# Altium schematic symbol library RPSLib.SchLib: 121 symbols (part 1 of 3)
Pins are listed as number, name and electrical type; pins without a type are passive.

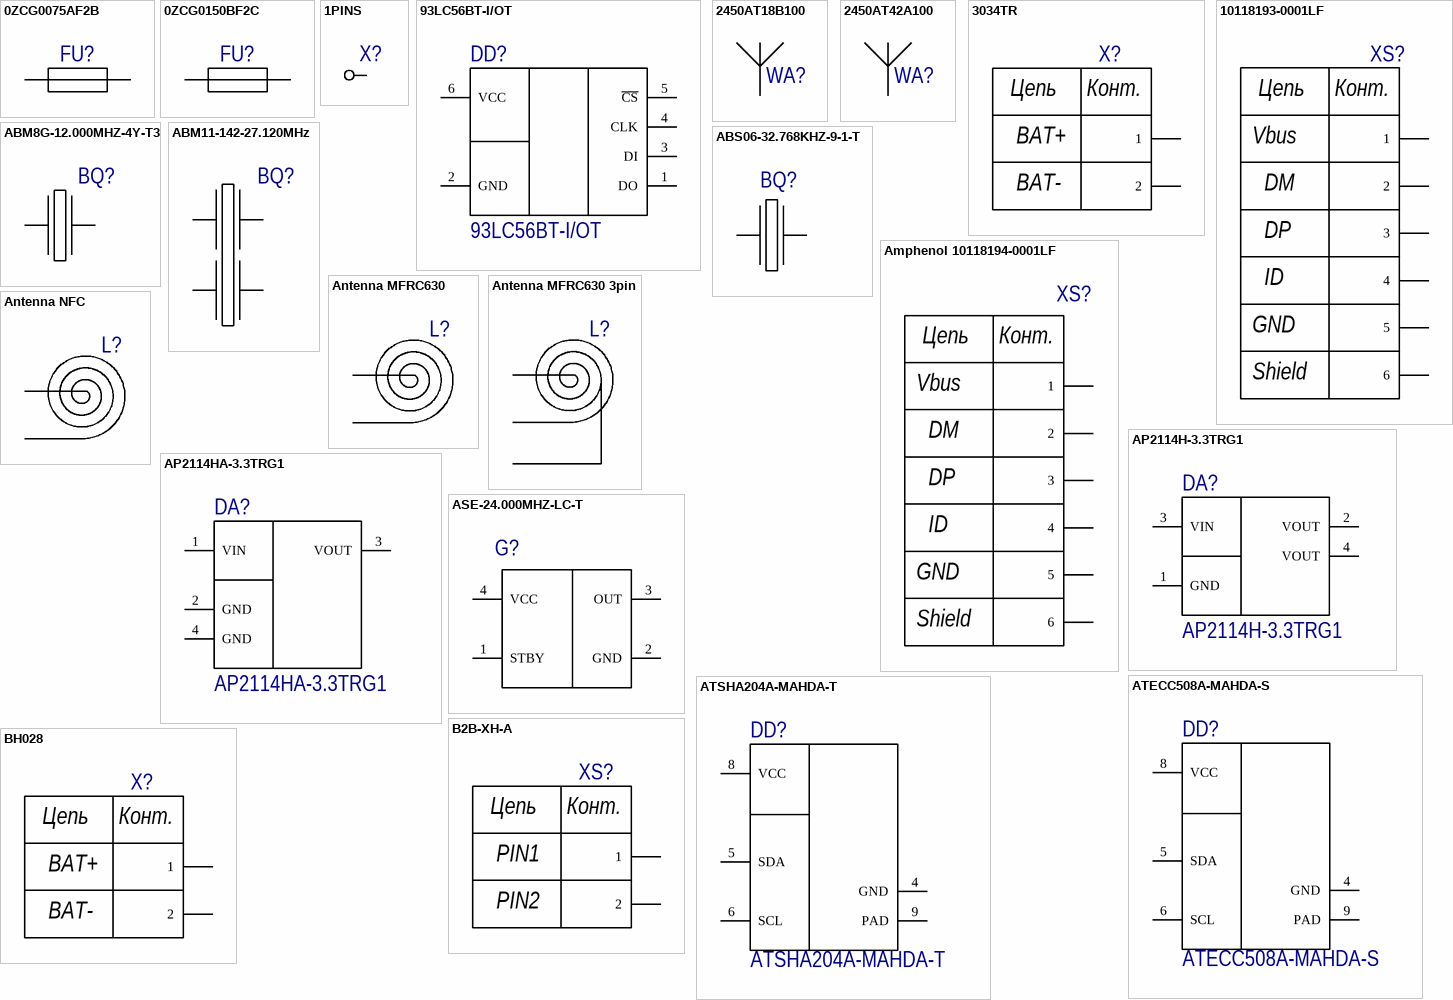
[diagram p0: symbols 0ZCG0075AF2B to BH028]

## 0ZCG0075AF2B
designator FU?  (value not drawn)
PTC RESTTBLE 0.75A 24V CHIP 1812; Manufacturer: Bel; Max Current Rating: 40A; Hold Current: 750mA; Trip Current: 1.5A; Time to Trip: 0.2s; РКД Наименование: *; Supplier 1: Digi-Key; Manufacturer Part Number: 0ZCG0075AF2B; Stock 1: 1719; Pricing 1: 1=0.21, 5=0.2, 10=0.191, 50=0.1706, 100=0.1588, 250=0.1411, 500=0.1176 (USD); Case/Package: 1812; Case Code (Metric): 4532; Case Code (Imperial): 1812; Package Quantity: 1; Packaging: Cut Tape; ComponentLink1URL: https://www.belfuse.com/resources/CircuitProtection/datasheets/0ZCG%20Nov2016.pdf?src-supplier=Digi-Key; ComponentLink1Description: https://www.belfuse.com/resources/CircuitProtection/datasheets/0ZCG%20Nov2016.pdf?src-supplier=Digi-Key; Supplier Part Number 1: 507-1764-1-ND
footprint FUSE4632X15N (Chip Fuse, 2-Leads, Body 4,55x3,24mm, IPC Medium Density)
pins: 1, 2

## 0ZCG0150BF2C
designator FU?  (value not drawn)
PTC RESTTBLE 1.50A 24V CHIP 1812; Manufacturer: Bel; Max Current Rating: 100A; Power Dissipation: 1W; Hold Current: 1.5A; Trip Current: 3A; Time to Trip: 1.5s; Approvals: TUV,UL; Supplier 1: Digi-Key; Manufacturer Part Number: 0ZCG0150BF2C; Stock 1: 213519; Pricing 1: 1=0.21, 5=0.2, 10=0.191, 50=0.1706, 100=0.1588, 250=0.14112, 500=0.1176, 1000=0.11172 (USD); Mount: Surface Mount; Case/Package: 1812; Case Code (Metric): 4532; Case Code (Imperial): 1812; Contact Plating: Matte,Tin; Number of Terminals: 2; Min Operating Temperature: -40°C; Max Operating Temperature: 85°C; Package Quantity: 1; Packaging: Tape and Reel; Max Voltage Rating (DC): 24V; Lead Free: Lead Free; Supplier Part Number 1: 507-1773-1-ND; РКД Наименование: *
footprint FUSE4632X15N (Chip Fuse, 2-Leads, Body 4,55x3,24mm, IPC Medium Density)
pins: 1, 2

## 1PINS
designator X?  (value not drawn)
footprint 1Pin
pins: 1

## 93LC56BT-I/OT
designator DD?
IC EEPROM 2K SPI 2MHZ SOT23-6; Manufacturer: Microchip; Density: 2Kb; Interface: Serial; Max Supply Voltage: 5.5V; Min Supply Voltage: 2.5V; Access Time: 250ns; Nominal Supply Current: 2mA; Supplier 1: Digi-Key; Manufacturer Part Number: 93LC56BT-I/OT; Stock 1: 30936; Pricing 1: 1=0.23, 25=0.2164, 100=0.2119 (USD); Mount: Surface Mount; Case/Package: SOT-23; Number of Pins: 6; Contact Plating: Matte,Tin; Min Operating Temperature: -40°C; Max Operating Temperature: 85°C; Max Frequency: 2MHz; Packaging: Tape and Reel; Package Quantity: 3000; Memory Size: 2Kb; Frequency: 2MHz; Memory Type: EEPROM; Length: 3.1mm; Height: 1.3mm; Width: 1.8mm; Radiation Hardening: No; REACH SVHC: No SVHC; Lead Free: Lead Free; ComponentLink1URL: http://ww1.microchip.com/downloads/jp/DeviceDoc/jp013939.pdf; ComponentLink1Description: http://ww1.microchip.com/downloads/jp/DeviceDoc/jp013939.pdf; ComponentLink2URL: http://www.microchip.com/mymicrochip/filehandler.aspx?ddocname=en013939; ComponentLink2Description: http://www.microchip.com/mymicrochip/filehandler.aspx?ddocname=en013939; Supplier Part Number 1: 93LC56BT-I/OTCT-ND
footprint SOT95P280X145-6N (SOT23, 6-Leads, Body 2.92x2.80mm, Pitch 0.95mm, IPC Medium Density)
pins: 1 DO, 2 GND, 3 DI, 4 CLK, 5 ~{CS}, 6 VCC

## 2450AT18B100
designator WA?  (value not drawn)
2450 MHz Chip antenna; Manufacturer: Johanson; Manufacturer Part Number: 2450AT18B100E; Impedance: 50R; Bandwidth: 100MHz; Power Rating: 3W; Number of Bands: 1; Return Loss: -9.5dB; Frequency: 2.45GHz; Max Frequency: 2.5GHz; Gain: -0.5dB; Supplier 1: Digi-Key; Stock 1: 179928; Pricing 1: 1=0.62, 10=0.541, 25=0.4788, 100=0.4172, 250=0.36308, 500=0.309, 1000=0.2472 (USD); Mount: Surface Mount; Case/Package: CSMD; Contact Plating: Tin; Min Operating Temperature: -40°C; Max Operating Temperature: 85°C; Package Quantity: 1; Packaging: Tape and Reel; Max Power Dissipation: 3W; Termination: Solder; Length: 3.2mm; Height: 0.051inch; Width: 1.6mm; Radiation Hardening: No; REACH SVHC: No SVHC; РКД Наименование: *; Supplier Part Number 1: 712-1006-1-ND
footprint 2450AT18B100 (2450 MHz Chip Antenna)
pins: 1 2

## 2450AT42A100
designator WA?  (value not drawn)
2450 MHz Chip antenna; Manufacturer: Johanson; Manufacturer Part Number: 2450AT42A100E; Impedance: 50R; Power Rating: 3W; Number of Bands: 1; Return Loss: -9.5dB; Frequency: 2.45GHz; Max Frequency: 2.5GHz; Gain: -1dB; РКД Наименование: 2450AT42A100 - Chip Antenna 2.4 GHz; Supplier 1: Digi-Key; Stock 1: 0; Mount: Surface Mount; Number of Pins: 2; Contact Plating: Tin; Min Operating Temperature: -40°C; Max Operating Temperature: 85°C; Package Quantity: 1; Packaging: Tape and Reel; Max Power Dissipation: 3W; Composition: Ceramic; Length: 5mm; Height: 0.043inch; Width: 2mm; Radiation Hardening: No; REACH SVHC: Unknown; Termination: Solder; Supplier Part Number 1: 712-1007-1-ND
footprint 2450AT42A100 (2450 MHz Chip antenna)
pins: 1 21

## 3034TR
designator X?  (value not drawn)
Держатель батареи; Manufacturer: JST; Manufacturer Part Number: B2B-XH-A(LF)(SN); Number of Positions: 2; Connector Type: Male Pin; Contact Resistance: 20mR; Max Current Rating: 3A; Max Voltage Rating (AC): 250V; Insulation Resistance: 1GR; Pitch: 2.5mm; Wire/Cable Gauge: 22AWG; Supplier 1: Digi-Key; Stock 1: 494280; Pricing 1: 1=0.15, 10=0.141, 100=0.0868, 500=0.07182, 1000=0.06284, 5000=0.05387, 10000=0.05237 (USD); Mount: Through Hole; Contact Plating: Copper,Lead,Tin; Colour: Natural; Contact Material: Brass; Housing Material: Polyamide; Housing Colour: White; Min Operating Temperature: -25°C; Max Operating Temperature: 85°C; Termination: Solder; Number of Rows: 1; Packaging: Bulk; Fastening Type: Detent; Orientation: Straight; Current Rating: 3A; Voltage Rating: 250V; Voltage Rating (AC): 250V; Number of Contacts: 2; Max Voltage Rating (DC): 250V; Length: 7.4mm; Depth: 5.75mm; Lead Pitch: 2.5mm; Lead Free: Lead Free; REACH SVHC: No SVHC; Supplier Part Number 1: 455-2247-ND; РКД Наименование: *
footprint 3034TR (3034TR Battery Holder)
pins: 1, 2
text: Цепь; Конт.; BAT+; BAT-

## 10118193-0001LF
designator XS?  (value not drawn)
USB - micro B USB 2.0 Receptacle Connector 5 Position Surface Mount, Right Angle, Horizontal; Manufacturer: Amphenol FCI; Gender: Female; Connector Type: Receptacle,USB; Number of Contacts: 5; Insulation Resistance: 1GR; Number of Ports: 1; Current Rating: 1.8A; Max Voltage Rating (AC): 100V; Pitch: 0.65mm; Supplier 1: Digi-Key; Manufacturer Part Number: 10118193-0001LF; Stock 1: 277505; Pricing 1: 1=0.42, 10=0.393, 25=0.3536, 50=0.3144, 100=0.3013, 250=0.27512, 500=0.26202 (USD); Mount: Horizontal,Surface Mount; Contact Material: Copper Alloy; Contact Plating: Gold; Colour: Black; Number of Terminals: 5; Housing Material: Polymer; Min Operating Temperature: -55°C; Max Operating Temperature: 85°C; Termination: Solder; Orientation: Right Angle; Package Quantity: 1200; Packaging: Tape and Reel; Voltage Rating: 100V; Features: Shielded; Length: 7.86mm; Depth: 5.67mm; Radiation Hardening: No; Flammability Rating: UL94 V-0; ComponentLink1URL: https://cdn.amphenol-icc.com/media/wysiwyg/files/documentation/datasheet/inputoutput/io_usb_micro.pdf; ComponentLink1Description: https://cdn.amphenol-icc.com/media/wysiwyg/files/documentation/datasheet/inputoutput/io_usb_micro.pdf; Supplier Part Number 1: 609-4616-1-ND
footprint Amphenol 10118193-0001LF (USB Micro-B)
pins: 1, 2, 3, 4, 5, 6
text: Цепь; Конт.; Vbus; DM; DP; ID; GND; Shield

## ABM8G-12.000MHZ-4Y-T3
designator BQ?  (value not drawn)
12MHz ±30ppm Crystal 10pF 120 Ohm -10°C ~ 60°C  Surface Mount 4-SMD, No Lead (DFN, LCC); Manufacturer: Abracon; ESR (Equivalent Series Resistance): 120R; Supplier 1: Digi-Key; Manufacturer Part Number: ABM8G-12.000MHZ-4Y-T3; Stock 1: 100422; Pricing 1: 1=0.45, 10=0.371, 50=0.3342, 100=0.297, 500=0.28216, 1000=0.2376 (USD); Mount: Surface Mount; Case/Package: CSMD; Number of Pins: 4; Min Operating Temperature: -10°C; Max Operating Temperature: 60°C; Frequency: 12MHz; Load Capacitance: 10pF; Packaging: Tape and Reel; Frequency Tolerance: 30ppm; Frequency Stability: 30ppm; Series Resistance: 120R; Length: 3.2mm; Height: 0.039inch; Width: 0.098inch; Depth: 2.5mm; REACH SVHC: No SVHC; Lead Free: Lead Free; ComponentLink1URL: https://www.verical.com/server-webapp/html/getDatasheet?partID=719872; ComponentLink1Description: https://www.verical.com/server-webapp/html/getDatasheet?partID=719872; ComponentLink2URL: https://abracon.com/Resonators/ABM8G.pdf; ComponentLink2Description: https://abracon.com/Resonators/ABM8G.pdf; ComponentLink3URL: http://www.abracon.com/Resonators/ABM8G.pdf; ComponentLink3Description: http://www.abracon.com/Resonators/ABM8G.pdf; Supplier Part Number 1: 535-10901-1-ND
footprint ABM8G (Abracon ABM8G Crystal)
pins: 1, 3

## ABM11-142-27.120MHz
designator BQ?  (value not drawn)
27.12MHz ±10ppm Crystal 8pF 40 Ohm -20°C ~ 70°C  Surface Mount 4-SMD, No Lead (DFN, LCC); Manufacturer: Abracon; Manufacturer Part Number: ABM11-142-27.120MHZ-T3; ESR (Equivalent Series Resistance): 40R; Supplier 1: Digi-Key; Stock 1: 4799; Pricing 1: 1=0.62, 10=0.516, 50=0.464, 100=0.4125, 500=0.39188, 1000=0.33 (USD); Mount: Surface Mount; Case/Package: SMD/SMT; Min Operating Temperature: -20°C; Max Operating Temperature: 70°C; Packaging: Tape and Reel; Frequency: 27.12MHz; Load Capacitance: 8pF; Frequency Stability: 10ppm; Frequency Tolerance: 10ppm; Length: 0.081inch; Height: 0.02inch; Width: 0.065inch; Supplier Part Number 1: 535-13524-1-ND; РКД Наименование: *
footprint ABM11 (ABM11 Crystal)
pins: 1, 2, 3 2, 4

## ABS06-32.768KHZ-9-1-T
designator BQ?  (value not drawn)
CRYSTAL 32.7680KHZ 9PF SMD; Manufacturer: Abracon; ESR (Equivalent Series Resistance): 90kR; Tolerance: 10ppm; Supplier 1: Digi-Key; Stock 1: 49513; Pricing 1: 1=0.83, 10=0.734, 50=0.6858, 100=0.6061, 500=0.5742, 1000=0.4785 (USD); Mount: Surface Mount; Case/Package: CSMD; Number of Pins: 2; Min Operating Temperature: -40°C; Max Operating Temperature: 85°C; Frequency: 32.768kHz; Load Capacitance: 9pF; Packaging: Tape and Reel; Package Quantity: 3000; Frequency Tolerance: 10ppm; Termination: SMD/SMT; Series Resistance: 90kR; Length: 2mm; Height: 0.024inch; Width: 1.2mm; Depth: 1.2mm; Radiation Hardening: No; REACH SVHC: No SVHC; ComponentLink1URL: http://www.abracon.com/Resonators/ABS06.pdf?src-supplier=Element14; ComponentLink1Description: http://www.abracon.com/Resonators/ABS06.pdf?src-supplier=Element14; ComponentLink2URL: https://abracon.com/Support/PackageDrawing/Resonators/ABS06.PDF?src-supplier=Digi-Key; ComponentLink2Description: https://abracon.com/Support/PackageDrawing/Resonators/ABS06.PDF?src-supplier=Digi-Key; ComponentLink3URL: http://www.abracon.com/Resonators/ABS06.pdf?src-supplier=Avnet; ComponentLink3Description: http://www.abracon.com/Resonators/ABS06.pdf?src-supplier=Avnet; ComponentLink4URL: http://www.abracon.com/Resonators/ABS06.pdf?src-supplier=Farnell; ComponentLink4Description: http://www.abracon.com/Resonators/ABS06.pdf?src-supplier=Farnell; ComponentLink5URL: http://www.abracon.com/Resonators/ABS06.pdf?src-supplier=Avnet+Asia; ComponentLink5Description: http://www.abracon.com/Resonators/ABS06.pdf?src-supplier=Avnet+Asia; Manufacturer Part Number: ABS06-32.768KHZ-9-1-T; Supplier Part Number 1: 535-10247-1-ND
footprint Abracon ABS06
pins: 1, 2

## Amphenol 10118194-0001LF
designator XS?  (value not drawn)
РКД Наименование: *
footprint Amphenol 10118194-0001LF
pins: 1, 2, 3, 4, 5, 6
text: Цепь; Конт.; Vbus; DM; DP; ID; GND; Shield

## Antenna MFRC630
designator L?, comment Антенна  (value not drawn)  (net tie, no BOM)
footprint MFRC630 Antenna 3x45 (Антенна 3 витка 45 мм)
footprint MFRC630 Antenna 4x45 (Антенна 4 витка 45 мм)
footprint MFRC630 Antenna 5x45 (Антенна 5 витка 45 мм)
footprint MFRC630 Antenna 3x44 circ (Антенна 3 витка 44 мм)
footprint MFRC630 Antenna 4x44 circ (Антенна 4витка 44 мм)
footprint MFRC630 Antenna 5x44 circ (Антенна 5 витков 44 мм)
pins: 1, 2

## Antenna MFRC630 3pin
designator L?, comment Антенна  (value not drawn)  (net tie, no BOM)
footprint MFRC630 Antenna 6x55 circ (Антенна 6 витков 35 мм)
pins: 1, 2, 3

## Antenna NFC
designator L?, comment Антенна  (value not drawn)  (net tie, no BOM)
footprint Antenna 3x40c (Антенна спиральная 3 витка, 40 мм)
footprint Antenna 3x45c (Антенна спиральная 3 витка, 45 мм)
footprint Antenna 4x40c (Антенна спиральная 4 витка, 40 мм)
footprint Antenna 4x45c (Антенна спиральная 4 витка, 45 мм)
footprint Antenna 5x40c (Антенна спиральная 5 витков, 40 мм)
footprint Antenna 5x45c (Антенна спиральная 5 витков, 45 мм)
footprint Antenna 3x40h (Антенна гексагональная 3 витка, 40 мм)
footprint Antenna 3x45h (Антенна гексагональная 3 витка, 45 мм)
footprint Antenna 3x50h (Антенна гексагональная 3 витка, 50 мм)
footprint Antenna 4x40h (Антенна гексагональная 4 витка, 40 мм)
footprint Antenna 4x45h (Антенна гексагональная 4 витка, 45 мм)
footprint Antenna 4x50h (Антенна гексагональная 4 витка, 50 мм)
pins: 1, 2

## AP2114H-3.3TRG1
designator DA?
IC REG LDO 3.3V 1A SOT223; Manufacturer: Diodes; Number of Outputs: 1; Min Input Voltage: 2.5V; Max Input Voltage: 6V; Dropout Voltage: 450mV; Polarity: Positive; Quiescent Current: 65uA; Accuracy: 1.5%; Power Supply Rejection Ratio (PSRR): 65dB; Output Type: Fixed; Supplier 1: Digi-Key; Manufacturer Part Number: AP2114H-3.3TRG1; Stock 1: 59384; Pricing 1: 1=0.36, 10=0.293, 100=0.1994, 500=0.14956, 1000=0.11218 (USD); Mount: Surface Mount; Case/Package: SOT-223; Number of Pins: 3; Weight: 0.000282oz; Min Operating Temperature: -40°C; Max Operating Temperature: 85°C; Packaging: Tape and Reel; Output Voltage: 3.3V; Package Quantity: 4000; Output Current: 1A; Number of Regulators: 1; Max Output Current: 1A; Length: 6.7mm; Height: 1.7mm; Width: 3.7mm; Lead Free: Lead Free; Supplier Part Number 1: AP2114H-3.3TRG1DICT-ND; РКД Наименование: *
footprint SOT230P700X180-4N (SOT223, 4-Leads, Body 6,50x7,00mm (avg), Pitch 2,30mm, IPC Medium Density)
pins: 1 GND, 2 VOUT, 3 VIN, 4 VOUT

## AP2114HA-3.3TRG1
designator DA?
IC REG LDO 3.3V 1A SOT223; Manufacturer: Diodes; Dropout Voltage: 450mV; Number of Regulators: 1; Polarity: Positive; Quiescent Current: 90uA; Accuracy: 1.5%; Min Input Voltage: 2.5V; Max Input Voltage: 6V; Output Type: Fixed; Supplier 1: Digi-Key; Manufacturer Part Number: AP2114HA-3.3TRG1; Stock 1: 1692; Pricing 1: 1=0.36, 10=0.293, 100=0.1994, 500=0.14956, 1000=0.11218 (USD); Mount: Surface Mount; Case/Package: TO-261-4; Number of Pins: 3; Contact Plating: Tin; Min Operating Temperature: -40°C; Max Operating Temperature: 85°C; Packaging: Tape and Reel; Package Quantity: 4000; Output Voltage: 3.3V; Output Current: 1A; Max Output Current: 1A; Number of Outputs: 1; Supplier Part Number 1: AP2114HA-3.3TRG1DICT-ND; РКД Наименование: *
footprint SOT230P700X180-4N (SOT223, 4-Leads, Body 6,50x7,00mm (avg), Pitch 2,30mm, IPC Medium Density)
pins: 1 VIN, 2 GND, 3 VOUT, 4 GND

## ASE-24.000MHZ-LC-T
designator G?  (value not drawn)
XTAL OSC XO 24.0000MHZ CMOS SMD; Manufacturer: Abracon; Frequency: 24MHz; Frequency Stability: 50ppm; Load Capacitance: 15pF; Max Supply Voltage: 2.625V; Min Supply Voltage: 2.375V; Max Supply Current: 13mA; Supplier 1: Digi-Key; Stock 1: 46062; Pricing 1: 1=1.39, 10=1.324, 50=1.2936, 100=1.1088, 500=1.078 (USD); Mount: Surface Mount; Case/Package: SMD/SMT; Number of Pins: 4; Min Operating Temperature: -40°C; Max Operating Temperature: 85°C; Packaging: Tape and Reel; Package Quantity: 1000; Termination: SMD/SMT; Length: 3.2mm; Height: 0.047inch; Width: 0.098inch; Depth: 2.5mm; Radiation Hardening: No; Lead Free: Lead Free; REACH SVHC: No SVHC; ComponentLink1URL: http://www.abracon.com/Oscillators/ASEseries.pdf?src-supplier=Newark; ComponentLink1Description: http://www.abracon.com/Oscillators/ASEseries.pdf?src-supplier=Newark; ComponentLink2URL: https://abracon.com/Support/PackageDrawing/Oscillators/ASE.PDF?src-supplier=Digi-Key; ComponentLink2Description: https://abracon.com/Support/PackageDrawing/Oscillators/ASE.PDF?src-supplier=Digi-Key; ComponentLink3URL: https://www.verical.com/server-webapp/html/getDatasheet?partID=719758&src-supplier=Verical; ComponentLink3Description: https://www.verical.com/server-webapp/html/getDatasheet?partID=719758&src-supplier=Verical; Supplier Part Number 1: 535-9566-1-ND; Manufacturer Part Number: ASE-24.000MHZ-LC-T
footprint ASE Abracon
pins: 1 STBY, 2 GND, 3 OUT, 4 VCC

## ATECC508A-MAHDA-S
designator DD?
CUSTSPEC, ECC 10KB - 8LD UDFN GENERIC TWI, 3K T&R Description CUSTSPEC, ECC 10KB - 8LD UDFN GENERIC TWI, 3K T&R; Manufacturer: Microchip / Atmel; Supplier 1: Digi-Key; Manufacturer Part Number: ATECC508A-MAHDA-S; Stock 1: 31288; Pricing 1: 1=0.73, 25=0.7064 (USD); Mount: Surface Mount; Packaging: Tape and Reel; Lead Free: Lead Free; Supplier Part Number 1: ATECC508A-MAHDA-SCT-ND; РКД Наименование: *
footprint SON50P300X60_HS-9N (SON, 8-Leads, Body 2,00x3,00mm, Pitch 0,50mm, Thermal Pad 1,50x1,30mm, IPC Medium Density)
pins: 4 GND, 5 SDA, 6 SCL, 8 VCC, 9 PAD

## ATSHA204A-MAHDA-T
designator DD?
IC CRYPTO 4.5KB I2C 8UDFN Description IC CRYPTO 4.5KB I2C 8UDFN; Manufacturer: Microchip / Atmel; Interface: I2C,Serial; Access Time: 550ns; Max Frequency: 1MHz; Number of Input Lines: 1; Output Current: 4mA; Output Voltage: 400mV; Max Supply Voltage: 6V; Min Supply Voltage: 2V; Operating Supply Voltage: 5.5V; Supplier 1: Digi-Key; Manufacturer Part Number: ATSHA204A-MAHDA-T; Stock 1: 24073; Pricing 1: 1=0.52, 25=0.4636 (USD); Mount: Surface Mount; Number of Pins: 8; Weight: 0.000335oz; Contact Plating: Gold; Min Operating Temperature: -40°C; Max Operating Temperature: 85°C; Package Quantity: 1; Packaging: Tape and Reel; Density: 4.5Kb; Number of Output Lines: 1; Lead Free: Lead Free; Supplier Part Number 1: ATSHA204A-MAHDA-TCT-ND; РКД Наименование: *
footprint SON50P300X60_HS-9N (SON, 8-Leads, Body 2,00x3,00mm, Pitch 0,50mm, Thermal Pad 1,50x1,30mm, IPC Medium Density)
pins: 4 GND, 5 SDA, 6 SCL, 8 VCC, 9 PAD

## B2B-XH-A
designator XS?  (value not drawn)
Разъем 2; Manufacturer: JST; Manufacturer Part Number: B2B-XH-A(LF)(SN); Number of Positions: 2; Connector Type: Male Pin; Contact Resistance: 20mR; Max Current Rating: 3A; Max Voltage Rating (AC): 250V; Insulation Resistance: 1GR; Pitch: 2.5mm; Wire/Cable Gauge: 22AWG; Supplier 1: Digi-Key; Stock 1: 494280; Pricing 1: 1=0.15, 10=0.141, 100=0.0868, 500=0.07182, 1000=0.06284, 5000=0.05387, 10000=0.05237 (USD); Mount: Through Hole; Contact Plating: Copper,Lead,Tin; Colour: Natural; Contact Material: Brass; Housing Material: Polyamide; Housing Colour: White; Min Operating Temperature: -25°C; Max Operating Temperature: 85°C; Termination: Solder; Number of Rows: 1; Packaging: Bulk; Fastening Type: Detent; Orientation: Straight; Current Rating: 3A; Voltage Rating: 250V; Voltage Rating (AC): 250V; Number of Contacts: 2; Max Voltage Rating (DC): 250V; Length: 7.4mm; Depth: 5.75mm; Lead Pitch: 2.5mm; Lead Free: Lead Free; REACH SVHC: No SVHC; Supplier Part Number 1: 455-2247-ND; РКД Наименование: *
footprint B2B-XH-A (2 pin connector)
pins: 1, 2
text: Цепь; Конт.; PIN1; PIN2

## BH028
designator X?  (value not drawn)
Держатель батареи; Manufacturer: JST; Manufacturer Part Number: B2B-XH-A(LF)(SN); Number of Positions: 2; Connector Type: Male Pin; Contact Resistance: 20mR; Max Current Rating: 3A; Max Voltage Rating (AC): 250V; Insulation Resistance: 1GR; Pitch: 2.5mm; Wire/Cable Gauge: 22AWG; Supplier 1: Digi-Key; Stock 1: 494280; Pricing 1: 1=0.15, 10=0.141, 100=0.0868, 500=0.07182, 1000=0.06284, 5000=0.05387, 10000=0.05237 (USD); Mount: Through Hole; Contact Plating: Copper,Lead,Tin; Colour: Natural; Contact Material: Brass; Housing Material: Polyamide; Housing Colour: White; Min Operating Temperature: -25°C; Max Operating Temperature: 85°C; Termination: Solder; Number of Rows: 1; Packaging: Bulk; Fastening Type: Detent; Orientation: Straight; Current Rating: 3A; Voltage Rating: 250V; Voltage Rating (AC): 250V; Number of Contacts: 2; Max Voltage Rating (DC): 250V; Length: 7.4mm; Depth: 5.75mm; Lead Pitch: 2.5mm; Lead Free: Lead Free; REACH SVHC: No SVHC; Supplier Part Number 1: 455-2247-ND; РКД Наименование: *
footprint BH028 (Держатель батареи)
pins: 1, 2
text: Цепь; Конт.; BAT+; BAT-

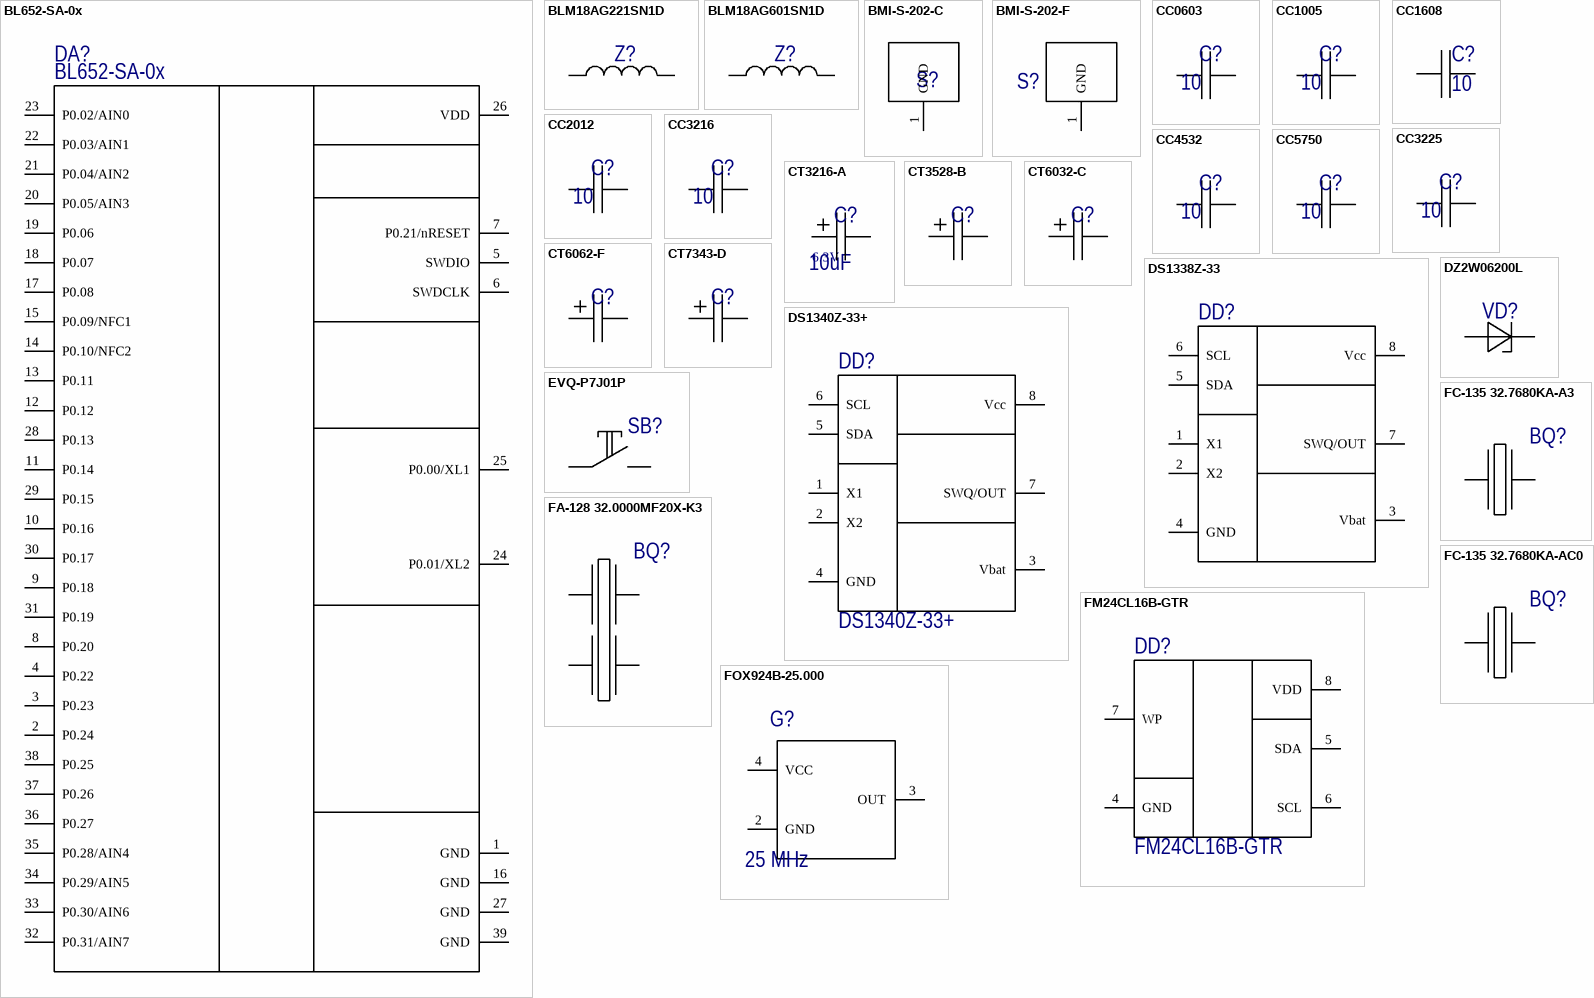
[diagram p1: symbols BL652-SA-0x to FOX924B-25.000]

## BL652-SA-0x
designator DA?
РКД Наименование: *
footprint BL652-Sx
pins: 1 GND, 2 P0.24, 3 P0.23, 4 P0.22, 5 SWDIO, 6 SWDCLK, 7 P0.21/nRESET, 8 P0.20, 9 P0.18, 10 P0.16, 11 P0.14, 12 P0.12, 13 P0.11, 14 P0.10/NFC2, 15 P0.09/NFC1, 16 GND, 17 P0.08, 18 P0.07, 19 P0.06, 20 P0.05/AIN3, 21 P0.04/AIN2, 22 P0.03/AIN1, 23 P0.02/AIN0, 24 P0.01/XL2, 25 P0.00/XL1, 26 VDD, 27 GND, 28 P0.13, 29 P0.15, 30 P0.17, 31 P0.19, 32 P0.31/AIN7, 33 P0.30/AIN6, 34 P0.29/AIN5, 35 P0.28/AIN4, 36 P0.27, 37 P0.26, 38 P0.25, 39 GND

## BLM18AG221SN1D
designator Z?  (value not drawn)
FERRITE CHIP 220 OHM 500MA 0603; Manufacturer: Murata; Impedance: 220R; Tolerance: 25%; DC Resistance (DCR): 250mR; Number of Lines: 1; Test Frequency: 100MHz; Shielding: Unshielded; РКД Наименование: BLM18AG221SN1D - EMI Filter, 220 Ohm, 1608M; Supplier 1: Digi-Key; Manufacturer Part Number: BLM18AG221SN1D; Stock 1: 104903; Pricing 1: 1=0.1, 10=0.079, 25=0.072, 50=0.0648, 100=0.0476, 250=0.0346, 500=0.0317, 1000=0.02738 (USD); Case/Package: 0603; Number of Pins: 2; Core Material: Ferrite; Case Code (Metric): 1608; Case Code (Imperial): 0603; Material: Steel; Min Operating Temperature: -55°C; Max Operating Temperature: 125°C; Max DC Current: 500mA; Package Quantity: 1; Max Current Rating: 500mA; Packaging: Tape and Reel; Current Rating: 500mA; Termination: SMD/SMT; DC Current: 500mA; Military Standard: Not; Frequency: 100MHz; Number of Circuits: 1; Length: 1.6mm; Height: 0.8mm; Width: 0.8mm; Depth: 0.8mm; Radiation Hardening: No; REACH SVHC: No SVHC; Lead Free: Lead Free; Supplier Part Number 1: 490-1012-1-ND
footprint INDC1608X06N_BLM18SN (Chip Inductor, 2-Leads, Body 1,60x0,80mm, IPC Medium Density)
pins: 1, 2

## BLM18AG601SN1D
designator Z?  (value not drawn)
FERRITE CHIP 600 OHM 500MA 0603; Manufacturer: Murata; Tolerance: 25%; Impedance: 600R; Number of Lines: 1; DC Resistance (DCR): 380mR; Test Frequency: 100MHz; Shielding: Unshielded; Supplier 1: Digi-Key; Manufacturer Part Number: BLM18AG601SN1D; Stock 1: 1068043; Pricing 1: 1=0.1, 10=0.079, 25=0.072, 50=0.0648, 100=0.0476, 250=0.0346, 500=0.0317, 1000=0.02738 (USD); Case/Package: 0603; Number of Pins: 2; Weight: 7.1E-05oz; Core Material: Ferrite; Case Code (Metric): 1608; Case Code (Imperial): 0603; Material: Ferrite,Steel; Min Operating Temperature: -55°C; Max Operating Temperature: 125°C; Package Quantity: 1; Max Current Rating: 500mA; Packaging: Tape and Reel; Current Rating: 500mA; Termination: SMD/SMT; Max DC Current: 500mA; DC Current: 500mA; Military Standard: Not; Frequency: 100MHz; Number of Circuits: 1; Length: 1.6mm; Height: 0.8mm; Width: 0.8mm; Depth: 0.8mm; Radiation Hardening: No; REACH SVHC: No SVHC; Lead Free: Lead Free; ComponentLink1URL: https://www.murata.com/en-us/products/productdata/8796738650142/ENFA0003.pdf; ComponentLink1Description: https://www.murata.com/en-us/products/productdata/8796738650142/ENFA0003.pdf; ComponentLink2URL: http://www.farnell.com/datasheets/1756147.pdf; ComponentLink2Description: http://www.farnell.com/datasheets/1756147.pdf; ComponentLink3URL: http://www.jameco.com/Jameco/Products/ProdDS/1844766.pdf; ComponentLink3Description: http://www.jameco.com/Jameco/Products/ProdDS/1844766.pdf; ComponentLink4URL: http://search.murata.co.jp/Ceramy/image/img/PDF/ENG/L0110S0100BLM18A.pdf; ComponentLink4Description: http://search.murata.co.jp/Ceramy/image/img/PDF/ENG/L0110S0100BLM18A.pdf; ComponentLink5URL: http://www.produktinfo.conrad.com/datenblaetter/425000-449999/442309-da-01-en-CHIP_DROSSEL_0603_600R_500MA_1_6X0_8MM.pdf; ComponentLink5Description: http://www.produktinfo.conrad.com/datenblaetter/425000-449999/442309-da-01-en-CHIP_DROSSEL_0603_600R_500MA_1_6X0_8MM.pdf; ComponentLink6URL: http://www.produktinfo.conrad.com/datenblaetter/1100000-1199999/001172228-da-01-en-DROSSEL_0603_600R_1_6X0_8MM_4000ST.pdf; ComponentLink6Description: http://www.produktinfo.conrad.com/datenblaetter/1100000-1199999/001172228-da-01-en-DROSSEL_0603_600R_1_6X0_8MM_4000ST.pdf; Supplier Part Number 1: 490-1014-1-ND
footprint INDC1608X08N_BLM18AG (Chip Inductor, 2-Leads, Body 1,60x0,80mm, IPC Medium Density)
pins: 1, 2

## BMI-S-202-C
designator S?  (value not drawn)
EMI Shield Крышка; PartNo: BMI-S-202-C; Supplier 1: Digi-Key; Supplier Part Number 1: 903-1014-ND
pins: 1 GND

## BMI-S-202-F
designator S?  (value not drawn)
BOARD SHIELD .65X.65" FRAME; Manufacturer: Laird; PartNo: BMI-S-202-F; Supplier 1: Digi-Key; Supplier Part Number 1: 903-1051-1-ND; Manufacturer Part Number: BMI-S-202-F; Stock 1: 112335; Pricing 1: 1=1.8, 10=1.622, 25=1.448, 100=1.3032, 250=1.15844 (USD); Mount: Solder; Colour: Grey; Material: Aluminium; Package Quantity: 700; Packaging: Tape and Reel; Length: 16.5mm; Width: 16.5mm; Depth: 3.6mm; REACH SVHC: Unknown; ComponentLink1URL: http://assets.lairdtech.com/home/brandworld/files/Board%20Level%20Shields%20Catalog%20Download.pdf; ComponentLink1Description: http://assets.lairdtech.com/home/brandworld/files/Board%20Level%20Shields%20Catalog%20Download.pdf
footprint BMI-S-202-F (EMI Shield)
pins: 1 GND

## CC0603
designator C?  value 10  (hidden comment: CC0603)
Конденсатор 0.6х0.3 мм; Voltage: *; Type: *; PartNo: *; Supplier Part Number 1: *; Supplier 1: *; РКД Наименование: *
footprint CAPC0603X02N (Chip Capacitor, 2-Leads, Body 0.60x0.30mm, IPC Medium Density)
pins: 1, 2

## CC1005
designator C?  value 10  (hidden comment: *)
Конденсатор 1.0x0.5 мм; Voltage: 16; Tolerance: ±5%; РКД Наименование: CC1005M - NP0 - 16 V - 10 pF ±5%; Type: *; PartNo: *; Supplier Part Number 1: *; Supplier 1: *
footprint CAPC1005X05N (Chip Capacitor, 2-Leads, Body 1.00x0.50mm, IPC Medium Density)
pins: 1, 2

## CC1608
designator C?  value 10  (hidden comment: *)
Конденсатор 1.6x0.8 мм; Tolerance: ±10%; ТКЕ: X7R; РКД Наименование: CC1608M - NP0 - 16 V - 10 pF ±10%; Voltage: *; Type: *; PartNo: *; Supplier Part Number 1: *; Supplier 1: *
footprint CAPC1608X09L (Chip Capacitor, 2-Leads, Body 1.60x0.80mm, IPC High Density)
footprint CAPC1608X05N (Chip Capacitor, 2-Leads, Body 1.60x0.80mm, IPC Medium Density)
pins: 1, 2

## CC2012
designator C?  value 10  (hidden comment: *)
Конденсатор 2.0x1.2 мм; Voltage: *; Type: *; PartNo: *; Supplier Part Number 1: *; Supplier 1: *; РКД Наименование: *
footprint CAPC2012X06N (Chip Capacitor, 2-Leads, Body 2.00x1.25mm, IPC Medium Density)
pins: 1, 2

## CC3216
designator C?  value 10  (hidden comment: *)
Конденсатор 3.2x1.6 мм; Tolerance: ±5%; Voltage: *; Type: *; PartNo: *; Supplier Part Number 1: *; Supplier 1: *; РКД Наименование: *
footprint CAPC3216X12L (Chip Capacitor, 2-Leads, Body 3.20x1.60mm, IPC High Density)
pins: 1, 2

## CC3225
designator C?  value 10  (hidden comment: *)
Конденсатор 3.2x2.5 мм; Voltage: *; Type: *; PartNo: *; Supplier Part Number 1: *; Supplier 1: *
footprint CAPC3225X28N (Chip Capacitor, 2-Leads, Body 3.20x2.50mm, IPC Medium Density)
pins: 1, 2

## CC4532
designator C?  value 10  (hidden comment: *)
Конденсатор 4.5x3.2 мм; Voltage: *; Type: *; PartNo: *; Supplier Part Number 1: *; Supplier 1: *
footprint CAPC4532X25N (Chip Capacitor, 2-Leads, Body 4.50x3.20mm, IPC Medium Density)
pins: 1, 2

## CC5750
designator C?  value 10  (hidden comment: *)
Конденсатор 5.7x5.0 мм; Voltage: *; Type: *; PartNo: *; Supplier Part Number 1: *; Supplier 1: *
footprint CAPC5750X23N (Chip Capacitor, 2-Leads, Body 5.70x5.00mm, IPC Medium Density)
pins: 1, 2

## CT3216-A
designator C?  value 10uF  Voltage: 6.3V  (hidden comment: *)
Tantalum Surface Mount Capacitor, Size A; Type: *; PartNo: *; Supplier Part Number 1: *; Supplier 1: *
footprint CAPMP3216X16N-A (Molded Capacitor, 2-Leads, Body 3.20x1.60mm, IPC Medium Density)
pins: 1, 2

## CT3528-B
designator C?  (value not drawn)
Tantalum Surface Mount Capacitor, Size B; Type: *; Value: *; Voltage: *; PartNo: *; Supplier Part Number 1: *; Supplier 1: *
footprint CAPMP3528X19N-B (Molded Capacitor, 2-Leads, Body 3.50x2.80mm, IPC Medium Density)
pins: 1, 2

## CT6032-C
designator C?  (value not drawn)
Tantalum Surface Mount Capacitor, Size C; Type: *; Value: *; Voltage: *; PartNo: *; Supplier Part Number 1: *; Supplier 1: *
footprint CAPMP6032X25N-C (Molded Capacitor, 2-Leads, Body 6.00x3.20mm, IPC Medium Density)
pins: 1, 2

## CT6062-F
designator C?  (value not drawn)
Tantalum Surface Mount Capacitor, Size F; Type: *; Value: *; Voltage: *; PartNo: *; Supplier Part Number 1: *; Supplier 1: *
footprint CAPMP6062X47N-F (Molded Capacitor, 2-Leads, Body 6.00x6.20mm, IPC Medium Density)
pins: 1, 2

## CT7343-D
designator C?  (value not drawn)
Tantalum Surface Mount Capacitor, Size D; Type: *; Value: *; Voltage: *; PartNo: *; Supplier Part Number 1: *; Supplier 1: *
footprint CAPMP7343X28N-D (Molded Capacitor, 2-Leads, Body 7.30x4.30mm, IPC Medium Density)
pins: 1, 2

## DS1338Z-33
designator DD?  (value not drawn)
I2C RTC with 56 Byte NV RAM; РКД Наименование: LP2985-33DBVR - LDO 3.3 V, 150 mA, SOT-23
footprint SOIC127P600X175-8N (SOIC, 8-Leads, Body 4.90x3.90mm, Pitch 1.27mm, IPC Medium Density)
pins: 1 X1, 2 X2, 3 Vbat, 4 GND, 5 SDA, 6 SCL, 7 SWQ/OUT, 8 Vcc

## DS1340Z-33+
designator DD?
IC RTC CLK/CALENDAR I2C 8-SOIC; Manufacturer: Maxim; Logic Function: Clock; Time Format: HH:MM:SS; Operating Supply Voltage: 3.3V; Max Supply Voltage: 5.5V; Min Supply Voltage: 2.97V; Interface: I2C,Serial,2-Wire; Date Format: YY-MM-DD-dd; Number of Outputs: 1; Frequency: 32.768kHz; Supplier 1: Digi-Key; Supplier Part Number 1: DS1340Z-33+-ND; Manufacturer Part Number: DS1340Z-33+; Stock 1: 1260; Pricing 1: 1=3.82, 10=3.427, 25=3.24, 100=2.808, 300=2.664, 500=2.3904, 1000=2.016, 2500=1.9152, 5000=1.8432 (USD); Mount: Surface Mount; Case/Package: SOIC; Number of Pins: 8; Weight: 0.019048oz; Contact Plating: Tin,Matte; Min Operating Temperature: -40°C; Max Operating Temperature: 85°C; Packaging: Rail/Tube; Package Quantity: 100; Termination: SMD/SMT; Length: 5mm; Height: 1.5mm; Width: 4mm; Radiation Hardening: No; REACH SVHC: Unknown; Lead Free: Lead Free; ComponentLink1URL: http://datasheets.maxim-ic.com/en/ds/DS1340-DS1340C.pdf?src-supplier=Avnet; ComponentLink1Description: http://datasheets.maxim-ic.com/en/ds/DS1340-DS1340C.pdf?src-supplier=Avnet; ComponentLink2URL: http://datasheets.maximintegrated.com/en/ds/DS1340-DS1340C.pdf?src-supplier=Avnet+Europe; ComponentLink2Description: http://datasheets.maximintegrated.com/en/ds/DS1340-DS1340C.pdf?src-supplier=Avnet+Europe; ComponentLink3URL: http://datasheets.maximintegrated.com/en/ds/DS1340-DS1340C.pdf?src-supplier=Digi-Key; ComponentLink3Description: http://datasheets.maximintegrated.com/en/ds/DS1340-DS1340C.pdf?src-supplier=Digi-Key
footprint SOIC127P600X175-8N (SOIC, 8-Leads, Body 4.90x3.90mm, Pitch 1.27mm, IPC Medium Density)
pins: 1 X1, 2 X2, 3 Vbat, 4 GND, 5 SDA, 6 SCL, 7 SWQ/OUT, 8 Vcc

## DZ2W06200L
designator VD?  (value not drawn)
PANASONIC   DZ2W06200L   Zener Single Diode, 6.2 V, 1 W, SOD-123F, 5 %, 2 Pins, 85 C; Tolerance: 5%; Max Power Dissipation: 1W; Zener Voltage: 6.2V; Impedance: 30R; Zener Current: 10mA; Max Reverse Leakage Current: 20uA; Supplier 1: Digi-Key; Manufacturer: Panasonic; Manufacturer Part Number: DZ2W06200L; Stock 1: 25200; Pricing 1: 1=0.48, 10=0.403, 25=0.3524, 100=0.3021, 250=0.2618, 500=0.2215, 1000=0.1712 (USD); Mount: Surface Mount; Number of Pins: 2; Contact Plating: Tin; Min Operating Temperature: -40°C; Max Operating Temperature: 85°C; Package Quantity: 1; Packaging: Tape and Reel; Voltage Tolerance: 5%; Test Current: 10mA; Element Configuration: Single; Length: 2.6mm; Height: 0.7mm; Width: 1.6mm; REACH SVHC: No SVHC; ComponentLink1URL: http://www.farnell.com/datasheets/1916125.pdf?src-supplier=Element14; ComponentLink1Description: http://www.farnell.com/datasheets/1916125.pdf?src-supplier=Element14; ComponentLink2URL: http://www.farnell.com/datasheets/1680979.pdf?src-supplier=Farnell; ComponentLink2Description: http://www.farnell.com/datasheets/1680979.pdf?src-supplier=Farnell; ComponentLink3URL: http://www.farnell.com/datasheets/1680979.pdf?src-supplier=Element14; ComponentLink3Description: http://www.farnell.com/datasheets/1680979.pdf?src-supplier=Element14; Supplier Part Number 1: DZ2W06200LCT-ND
footprint SODFL350X110-2N (SODFL, 2-Leads, Body 1,65x3,50mm, IPC Medium Density)
pins: 1, 2

## EVQ-P7J01P
designator SB?  (value not drawn)
Tactile Switches 3.5x2.9mm Right Ang Light Touch Switch; PartNo: 430152070836; Manufacturer: Wurth Elektronik; Mechanical Life: 100000Cycles; Operating Force: 1.6N; Current Rating: 50mA; Voltage Rating (DC): 12V; Throw Configuration: SPST; Contact Resistance: 500mR; Illumination Type: Non-Illuminated; Switch Travel: 0.2mm; Switch Function: Off-Mom; Actuator Length: 0.65mm; ComponentLink1Description: Manufacturer; ComponentLink1URL: http://www.we-online.de; Created by: Baojun Chen; Created Date: Dec.2015; ComponentLink2Description: Datasheet; ComponentLink2URL: http://katalog.we-online.de/em/datasheet/4301x2xxx8x6.pdf; Supplier 1: Digi-Key; Manufacturer Part Number: EVQ-P7J01P; Stock 1: 44998; Pricing 1: 1=0.31, 10=0.303, 25=0.292, 50=0.2814, 100=0.2706, 250=0.24892, 500=0.21644, 1000=0.18397 (USD); Mount: Surface Mount; Case/Package: SMD/SMT; Min Operating Temperature: -20°C; Max Operating Temperature: 70°C; Package Quantity: 5000; Packaging: Tape and Reel; Max Voltage Rating (DC): 12V; Termination: Gull Wing; Contact Current Rating: 50mA; Electrical Life: 100000Cycles; Orientation: Right Angle; Length: 3.5mm; Height: 1.35mm; Width: 2.9mm; Radiation Hardening: No; REACH SVHC: No SVHC; Lead Free: Lead Free; Supplier Part Number 1: P16767CT-ND; РКД Наименование: *
footprint EVQ-P7J01P (Tactile switch)
pins: 1, 2

## FA-128 32.0000MF20X-K3
designator BQ?  (value not drawn)
Crystals 32MHz 10ppm 10pF -40C +85C; Manufacturer: Epson; Frequency Stability: 20ppm; ESR (Equivalent Series Resistance): 60R; РКД Наименование: FA-128 32.0000MF20X-K3 - 32 MHz Crystal, 10 pF; Supplier 1: Digi-Key; Manufacturer Part Number: FA-12832.0000MF20X-K3; Stock 1: 36825; Pricing 1: 1=0.59, 10=0.495, 50=0.4456, 100=0.396 (USD); Mount: Surface Mount; Case/Package: SMD/SMT; Number of Pins: 4; Min Operating Temperature: -40°C; Max Operating Temperature: 85°C; Frequency: 32MHz; Load Capacitance: 10pF; Frequency Tolerance: 10ppm; Packaging: Tape and Reel; Tolerance: 10ppm; Package Quantity: 250; Termination: SMD/SMT; Length: 0.079inch; Height: 0.02inch; Width: 0.063inch; Lead Free: Lead Free; Supplier Part Number 1: SER3800CT-ND
footprint BT-XTAL_2016 (Crystal 2.0 x 1.6 mm)
pins: 1, 2, 3 2, 4

## FC-135 32.7680KA-A3
designator BQ?  (value not drawn)
32.768kHz ±20ppm Crystal 12.5pF 70 kOhms 2-SMD, No Lead; Manufacturer: Epson; РКД Наименование: FC-13532.7680KA-AC0 - 32.768 kHz Crystal; ESR (Equivalent Series Resistance): 70kR; Supplier 1: Digi-Key; Supplier Part Number 1: SE2413CT-ND; Manufacturer Part Number: FC-13532.7680KA-A3; Stock 1: 252080; Pricing 1: 1=0.41, 10=0.344, 50=0.3094, 100=0.275 (USD); Mount: Surface Mount; Case/Package: SMD/SMT; Number of Pins: 2; Weight: 0.000564oz; Min Operating Temperature: -40°C; Max Operating Temperature: 85°C; Frequency: 32.768kHz; Frequency Tolerance: 20ppm; Load Capacitance: 12.5pF; Packaging: Tape and Reel; Package Quantity: 1; Tolerance: 20ppm; Termination: SMD/SMT; Frequency Stability: 20ppm; Length: 3.2mm; Height: 0.035inch; Width: 0.059inch; Depth: 1.5mm; Lead Free: Contains Lead; ComponentLink1URL: https://www.verical.com/server-webapp/html/getDatasheet?partID=112713&src-supplier=Verical; ComponentLink1Description: https://www.verical.com/server-webapp/html/getDatasheet?partID=112713&src-supplier=Verical; ComponentLink2URL: https://www.verical.com/server-webapp/html/getDatasheet?partID=788185&src-supplier=Verical; ComponentLink2Description: https://www.verical.com/server-webapp/html/getDatasheet?partID=788185&src-supplier=Verical
footprint XTAL_3215
pins: 1, 2

## FC-135 32.7680KA-AC0
designator BQ?  (value not drawn)
Crystals 32.768KHz 20ppm 9.0pF -40C -85C; Manufacturer: Epson; ESR (Equivalent Series Resistance): 70kR; Load Capacitance: 9pF; РКД Наименование: FC-13532.7680KA-AC0 - 32.768 kHz Crystal; Supplier 1: Digi-Key; Manufacturer Part Number: FC-13532.7680KA-AC0; Stock 1: 0; Mount: Surface Mount; Case/Package: SMD/SMT; Weight: 0.000564oz; Min Operating Temperature: -40°C; Max Operating Temperature: 85°C; Frequency: 32.768kHz; Packaging: Tape and Reel; Frequency Tolerance: 20ppm; Package Quantity: 1000; Tolerance: 20ppm; Termination: SMD/SMT; Frequency Stability: 20ppm; Length: 0.126inch; Height: 0.035inch; Width: 0.059inch; Radiation Hardening: No; Supplier Part Number 1: SER4084CT-ND
footprint XTAL_3215
pins: 1, 2

## FM24CL16B-GTR
designator DD?
IC FRAM 16K I2C 1MHZ 8SOIC; Manufacturer: Cypress; Max Supply Voltage: 3.65V; Min Supply Voltage: 2.7V; Density: 16Kb; Operating Supply Voltage: 3V; Interface: I2C,Serial,2-Wire; Word Size: 8b; Access Time: 550ns; Nominal Supply Current: 300uA; Memory Type: RAM,FRAM; Supplier 1: Digi-Key; Stock 1: 12640; Pricing 1: 1=1.85, 10=1.687, 25=1.6416, 50=1.6328, 100=1.4596, 250=1.45532, 500=1.43364, 1000=1.37214 (USD); Mount: Surface Mount; Case/Package: SOIC; Number of Pins: 8; Contact Plating: Tin,Matte; Min Operating Temperature: -40°C; Max Operating Temperature: 85°C; Packaging: Tape and Reel; Package Quantity: 2500; Frequency: 1MHz; Memory Size: 16KB; Data Bus Width: 8b; Lead Free: Lead Free; Supplier Part Number 1: 428-3310-1-ND; Manufacturer Part Number: FM24CL16B-GTR
footprint SOIC127P600X175-8N (SOIC, 8-Leads, Body 4.90x3.90mm, Pitch 1.27mm, IPC Medium Density)
pins: 1 NC hidden, 2 NC hidden, 3 NC hidden, 4 GND (power), 5 SDA, 6 SCL, 7 WP, 8 VDD (power)

## FOX924B-25.000
designator G?  value 25 MHz  (hidden comment: FOX924B-25.000)
OSC TCXO 25.000MHZ HCMOS SMD; Manufacturer: Fox Electronics; РКД Наименование: FOX924B-25.000 - TCXO 25 MHz; Load Capacitance: 15pF; Frequency Tolerance: 1.5ppm; Operating Supply Voltage: 3.3V; Frequency Stability: 2.5ppm; Frequency: 25MHz; Min Supply Voltage: 3.135V; Max Supply Voltage: 3.465V; Max Supply Current: 6mA; PartNo: FOX924B-25.000; Supplier 1: Digi-Key; Manufacturer Part Number: FOX924B-25.000; Stock 1: 0; Mount: Surface Mount; Case/Package: SMD/SMT; Number of Pins: 4; Min Operating Temperature: -30°C; Max Operating Temperature: 85°C; Packaging: Tape and Reel; Package Quantity: 1000; Length: 0.197inch; Height: 0.059inch; Width: 0.126inch; Radiation Hardening: No; REACH SVHC: No SVHC; Lead Free: Lead Free; Supplier Part Number 1: 631-1074-1-ND
footprint FOX924 (Ultra Miniature SMD TCXO, 5x7mm)
pins: 2 GND, 3 OUT, 4 VCC

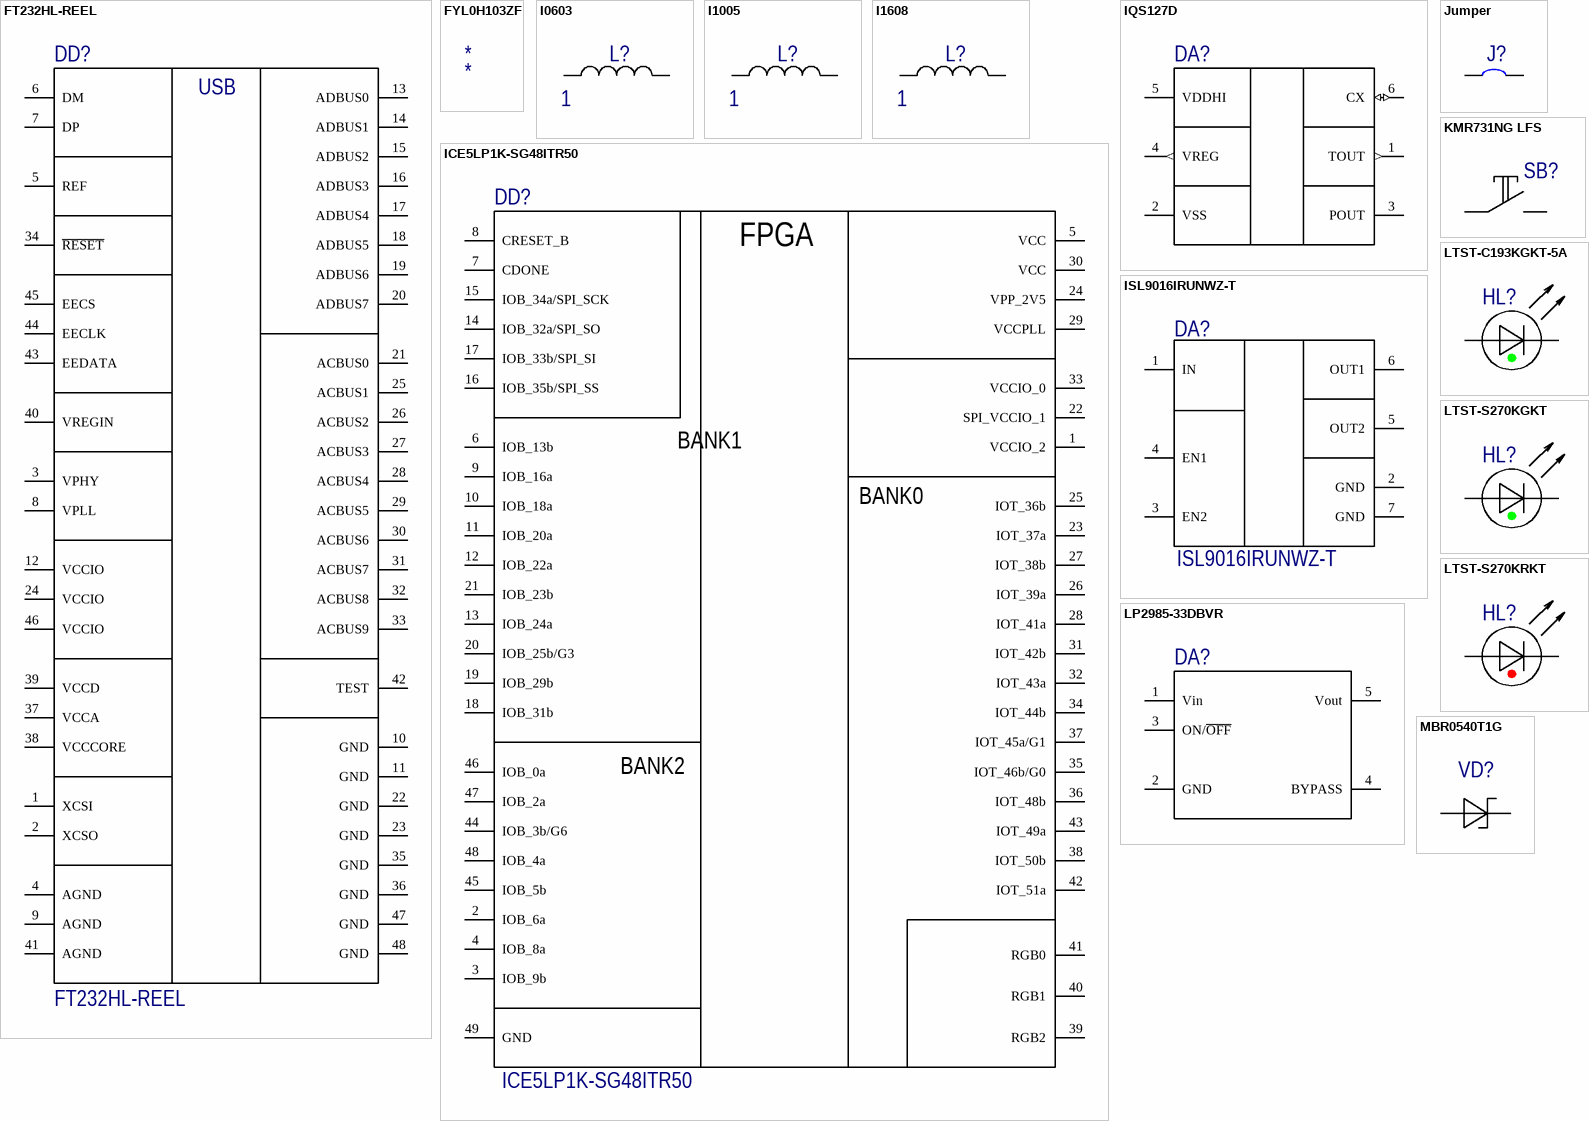
[diagram p2: symbols FT232HL-REEL to MBR0540T1G]

## FT232HL-REEL
designator DD?
IC HS USB TO UART/FIFO 48LQFP; Manufacturer: FTDI; Max Supply Voltage: 3.63V; Interface: RS-232,RS-422,RS-485,UART; Operating Supply Current: 24mA; Min Supply Voltage: 2.97V; Operating Supply Voltage: 3.3V; Number of Channels: 1; Nominal Supply Current: 60mA; Data Rate: 12Mbps; Supplier 1: Digi-Key; Manufacturer Part Number: FT232HL-REEL; Stock 1: 26419; Pricing 1: 1=4.25, 10=3.55, 100=3.1, 250=2.95, 500=2.85002 (USD); Mount: Surface Mount; Case/Package: LQFP; Number of Pins: 48; Weight: 0.006409oz; Min Operating Temperature: -40°C; Max Operating Temperature: 85°C; Packaging: Tape and Reel; Package Quantity: 1; Length: 7mm; Height: 1.4mm; Width: 7mm; Lead Free: Lead Free; REACH SVHC: No SVHC; ComponentLink1URL: http://www.ftdichip.com/Support/Documents/DataSheets/ICs/DS_FT232H.pdf; ComponentLink1Description: http://www.ftdichip.com/Support/Documents/DataSheets/ICs/DS_FT232H.pdf; ComponentLink2URL: http://www.farnell.com/datasheets/1913746.pdf; ComponentLink2Description: http://www.farnell.com/datasheets/1913746.pdf; ComponentLink3URL: http://www.mouser.com/ds/2/163/DS_FT232H-11324.pdf; ComponentLink3Description: http://www.mouser.com/ds/2/163/DS_FT232H-11324.pdf; Supplier Part Number 1: 768-1101-1-ND
footprint TSQFP50P900X900X160-48N (TSQFP, 48-Leads, Body 7,00x7,00mm, Pitch 0,50mm, IPC Medium Density)
pins: 1 XCSI, 2 XCSO, 3 VPHY, 4 AGND, 5 REF, 6 DM, 7 DP, 8 VPLL, 9 AGND, 10 GND, 11 GND, 12 VCCIO, 13 ADBUS0, 14 ADBUS1, 15 ADBUS2, 16 ADBUS3, 17 ADBUS4, 18 ADBUS5, 19 ADBUS6, 20 ADBUS7, 21 ACBUS0, 22 GND, 23 GND, 24 VCCIO, 25 ACBUS1, 26 ACBUS2, 27 ACBUS3, 28 ACBUS4, 29 ACBUS5, 30 ACBUS6, 31 ACBUS7, 32 ACBUS8, 33 ACBUS9, 34 ~{RESET}, 35 GND, 36 GND, 37 VCCA, 38 VCCCORE, 39 VCCD, 40 VREGIN, 41 AGND, 42 TEST, 43 EEDATA, 44 EECLK, 45 EECS, 46 VCCIO, 47 GND, 48 GND
text: USB

## FYL0H103ZF
designator *
Manufacturer: KEMET; Manufacturer Part Number: FYL0H103ZF; Tolerance: 80%; Voltage Rating (DC): 5.5V; ESR (Equivalent Series Resistance): 300R; Capacitance: 10mF; Leakage Current: 15uA; Supplier 1: Digi-Key; Supplier Part Number 1: 399-10789-ND; Stock 1: 2732; Pricing 1: 1=1.72, 10=1.394, 100=1.0647, 500=0.8112, 1000=0.7098, 2500=0.6845, 5000=0.6591 (USD); Mount: Through Hole; Case/Package: Radial; Min Operating Temperature: -25°C; Max Operating Temperature: 70°C; Packaging: Bulk; Voltage Rating: 5.5V; Package Quantity: 2000; Termination: Radial; Voltage: 5.5V; Diameter: 11mm; Length: 5mm; Lead Pitch: 5.08mm; Height - Seated (Max): 0.217inch; Depth: 5mm; Radiation Hardening: No; REACH SVHC: No SVHC; ComponentLink1URL: https://api.kemet.com/component-edge/download/datasheet/FYL0H103ZF.pdf?src-supplier=Digi-Key; ComponentLink1Description: https://api.kemet.com/component-edge/download/datasheet/FYL0H103ZF.pdf?src-supplier=Digi-Key; ComponentLink2URL: http://www.farnell.com/datasheets/2024570.pdf?src-supplier=Element14; ComponentLink2Description: http://www.farnell.com/datasheets/2024570.pdf?src-supplier=Element14; ComponentLink3URL: http://uk.rs-online.com/webdocs/1517/0900766b81517508.pdf?src-supplier=RSComponents; ComponentLink3Description: http://uk.rs-online.com/webdocs/1517/0900766b81517508.pdf?src-supplier=RSComponents

## I0603
designator L?  value 1  (hidden comment: *)
Катушка 0.6x0.3 мм; Current: *; PartNo: *; Supplier 1: *; Supplier Part Number 1: *
footprint INDC0603X03N (Chip Inductor, 2-Leads, Body 0.60x0.30mm, IPC Medium Density)
pins: 1, 2

## I1005
designator L?  value 1  (hidden comment: *)
Катушка 1.0x0.5 мм; Tolerance: ±5%; Current: *; PartNo: *; Supplier 1: *; Supplier Part Number 1: *
footprint INDC1005X06N (Chip Inductor, 2-Leads, Body 1.00x0.50mm, IPC Medium Density)
pins: 1, 2

## I1608
designator L?  value 1  (hidden comment: *)
Катушка 1.6x0.8 мм; Current: *; PartNo: *; Supplier 1: *; Supplier Part Number 1: *
footprint INDC1608X08N (Chip Inductor, 2-Leads, Body 1.60x0.80mm, IPC Medium Density)
footprint LQW18A (Footprint not found)
pins: 1, 2

## ICE5LP1K-SG48ITR50
designator DD?
IC FPGA 1100LUTS 1.2V 48QFN; Manufacturer: Lattice Semiconductor; Number of Logic Blocks (LABs): 138; Number of Logic Elements/Cells: 1100; RAM Size: 65536b; Number of I/Os: 39; Supplier 1: Digi-Key; Manufacturer Part Number: ICE5LP1K-SG48ITR50; Stock 1: 3737; Pricing 1: 1=3.38 (USD); Mount: Surface Mount; Case/Package: QFN; Min Operating Temperature: -40°C; Max Operating Temperature: 100°C; Supplier Part Number 1: 220-2064-1-ND; РКД Наименование: *; Supplier 2: Digi-Key; Stock 2: 154297; Pricing 2: 1=0.47, 10=0.346, 100=0.196, 500=0.1298, 1000=0.0995 (USD); Supplier Part Number 2: 497-17154-1-ND
footprint QFN50P700X700X100_HS-49N (QFN, 48-Leads, Body 7,00x7,00mm, Pitch 0,50mm, Thermal Pad 5,40x5,40mm, IPC Medium Density)
pins: 1 VCCIO_2, 2 IOB_6a, 3 IOB_9b, 4 IOB_8a, 5 VCC, 6 IOB_13b, 7 CDONE, 8 CRESET_B, 9 IOB_16a, 10 IOB_18a, 11 IOB_20a, 12 IOB_22a, 13 IOB_24a, 14 IOB_32a/SPI_SO, 15 IOB_34a/SPI_SCK, 16 IOB_35b/SPI_SS, 17 IOB_33b/SPI_SI, 18 IOB_31b, 19 IOB_29b, 20 IOB_25b/G3, 21 IOB_23b, 22 SPI_VCCIO_1, 23 IOT_37a, 24 VPP_2V5, 25 IOT_36b, 26 IOT_39a, 27 IOT_38b, 28 IOT_41a, 29 VCCPLL, 30 VCC, 31 IOT_42b, 32 IOT_43a, 33 VCCIO_0, 34 IOT_44b, 35 IOT_46b/G0, 36 IOT_48b, 37 IOT_45a/G1, 38 IOT_50b, 39 RGB2, 40 RGB1, 41 RGB0, 42 IOT_51a, 43 IOT_49a, 44 IOB_3b/G6, 45 IOB_5b, 46 IOB_0a, 47 IOB_2a, 48 IOB_4a, 49 GND
text: FPGA; BANK1; BANK0; BANK2

## IQS127D
designator DA?  (value not drawn)
Capacitive Touch Sensors Default Config Prox & Touch; Manufacturer: Azoteq; Manufacturer Part Number: IQS127D-00000TSR; Operating Supply Voltage: 5.5V; Number of Channels: 1; Interface: Serial; Supplier 1: Digi-Key; Stock 1: 21916; Pricing 1: 1=0.79, 5=0.754, 10=0.657, 25=0.5772, 50=0.4796, 100=0.4085, 500=0.3552, 1000=0.3108 (USD); Packaging: Tape and Reel; Package Quantity: 3000; Sensing Method: Capacitive; Supplier Part Number 1: 1790-1025-6-ND; РКД Наименование: *
footprint SOT95P280X100-6N (Footprint not found)
pins: 1 TOUT (out), 2 VSS (power), 3 POUT, 4 VREG (out), 5 VDDHI (power), 6 CX (io)

## ISL9016IRUNWZ-T
designator DA?
IC REG LINEAR 3.3V/1.2V 6UTDFN, OUT1 - 3.3V, OUT2 - 1.2V; Manufacturer: Intersil; Dropout Voltage: 120mV; Number of Outputs: 2; Min Input Voltage: 1.8V; Max Input Voltage: 6.5V; Output Current: 150mA; Min Current Limit: 175mA; Polarity: Positive; Quiescent Current: 49uA; Accuracy: 0.8%; Power Supply Rejection Ratio (PSRR): 80dB; Output Type: Fixed; Supplier 1: Digi-Key; Stock 1: 2211; Pricing 1: 1=1.22, 10=1.094, 25=1.0384, 100=0.8528, 250=0.79724, 500=0.70452, 1000=0.5562 (USD); Mount: Surface Mount; Number of Pins: 6; Min Operating Temperature: -40°C; Max Operating Temperature: 85°C; Package Quantity: 1; Packaging: Tape and Reel; Output Voltage: 1.2V; Number of Regulators: 2; ComponentLink1URL: http://www.intersil.com/content/dam/Intersil/documents/isl9/isl9016.pdf?src-supplier=Digi-Key; ComponentLink1Description: http://www.intersil.com/content/dam/Intersil/documents/isl9/isl9016.pdf?src-supplier=Digi-Key; ComponentLink2URL: http://www.intersil.com/content/dam/Intersil/documents/isl9/isl9016.pdf?src-supplier=Avnet; ComponentLink2Description: http://www.intersil.com/content/dam/Intersil/documents/isl9/isl9016.pdf?src-supplier=Avnet; Manufacturer Part Number: ISL9016IRUNWZ-T; Supplier Part Number 1: ISL9016IRUNWZ-TCT-ND
footprint SON50P160X55_HS-7N (SON, 6-Leads, Body 1,60x1,60mm, Pitch 0,50mm, Thermal Pad 1,00x0,43mm, IPC Medium Density)
pins: 1 IN, 2 GND, 3 EN2, 4 EN1, 5 OUT2, 6 OUT1, 7 GND

## Jumper
designator J?  (value not drawn)
footprint Jumper_5
footprint Jumper_6
footprint Jumper_7
footprint Jumper_8
footprint Jumper_9
footprint Jumper_10
footprint Jumper_11
footprint Jumper_12
footprint Jumper_13
footprint Jumper_14
footprint Jumper_15
footprint Jumper_16
footprint Jumper_17
footprint Jumper_18
footprint Jumper_19
footprint Jumper_20
footprint Jumper_30 (Перемычка 30 мм отверстия)
pins: 1, 2

## KMR731NG LFS
designator SB?  (value not drawn)
Tactile Switch SPST-NO Top Actuated Surface Mount; Manufacturer: ITT C&K; Mechanical Life: 150000Cycles; Illumination Type: Non-Illuminated; Operating Force: 300gf; Throw Configuration: SPST; Switch Function: Off-Mom; Actuator Type: Standard; Ratings: Dust Tight,IP67,Waterproof; Supplier 1: Digi-Key; Manufacturer Part Number: KMR731NGLFS; Stock 1: 0; Mount: Surface Mount; Min Operating Temperature: -40°C; Max Operating Temperature: 85°C; Packaging: Tape and Reel; Termination: Gull Wing; Supplier Part Number 1: CKN10687CT-ND; РКД Наименование: *
footprint KMR7 (Tactile button)
pins: 1, 2

## LP2985-33DBVR
designator DA?  (value not drawn)
IC REG LDO 3.3V 0.15A SOT23-5; Manufacturer: Texas Instruments; Number of Outputs: 1; Min Input Voltage: 2.2V; Max Input Voltage: 16V; Max Output Current: 150mA; Polarity: Positive; Output Type: Fixed; Dropout Voltage: 280mV; Input Bias Current: 850uA; Accuracy: 1.5%; РКД Наименование: LP2985-33DBVR - LDO 3.3 V, 150 mA, SOT-23; PartNo: *; Supplier 1: Digi-Key; Manufacturer Part Number: LP2985-33DBVR; Stock 1: 139813; Pricing 1: 1=0.6, 10=0.527, 100=0.4039, 500=0.3193, 1000=0.25544 (USD); Case/Package: SOT-23; Number of Pins: 5; Contact Plating: Matte,Tin; Min Operating Temperature: -40°C; Max Operating Temperature: 125°C; Output Voltage: 3.3V; Packaging: Tape and Reel; Package Quantity: 1; Output Current: 150mA; Number of Regulators: 1; Output Voltage Accuracy: 1.5%; Quiescent Current: 850uA; Nominal Output Voltage: 3.3V; Radiation Hardening: No; Lead Free: Lead Free; REACH SVHC: No SVHC; Supplier Part Number 1: 296-18476-1-ND
footprint SOT95P280X145-5N (SOT23, 5-Leads, Body 2.90x2.80mm, Pitch 0.95mm, IPC Medium Density)
pins: 1 Vin, 2 GND, 3 ON/~{OFF}, 4 BYPASS, 5 Vout